# Altium schematic symbol library PCA9685PW_Q900_118.SchLib: 1 symbol
Pins are listed as number, name and electrical type; pins without a type are passive.

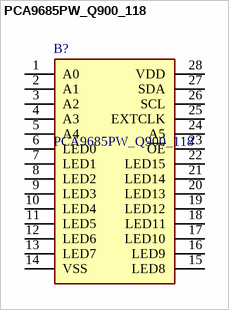
[diagram p0: symbol PCA9685PW_Q900_118]

## PCA9685PW_Q900_118
designator B?
NXP - PCA9685PW/Q900,118 - LED DRIVER, AEC-Q100, 16-CH, TSSOP-20; Geometry.Height: 1.1mm; Mouser Part Number: 771-PCA9685PWQ900118; Mouser Price/Stock: https://www.mouser.co.uk/ProductDetail/NXP-Semiconductors/PCA9685PW-Q900118?qs=MWRe%252BjyhxRtZfKNN86P1Tg%3D%3D; Manufacturer_Name: NXP; Manufacturer_Part_Number: PCA9685PW/Q900,118; Datasheet Link: http://www.nxp.com/docs/en/data-sheet/PCA9685.pdf
footprint SOP65P640X110-28N
pins: 1 A0, 2 A1, 3 A2, 4 A3, 5 A4, 6 LED0, 7 LED1, 8 LED2, 9 LED3, 10 LED4, 11 LED5, 12 LED6, 13 LED7, 14 VSS, 15 LED8, 16 LED9, 17 LED10, 18 LED11, 19 LED12, 20 LED13, 21 LED14, 22 LED15, 23 ~{OE}, 24 A5, 25 EXTCLK, 26 SCL, 27 SDA, 28 VDD